# EAGLE library part BM04B-GVHS-TB_LF__SN_ (library BM04B-GVHS-TB_LF__SN_)
CONN HEADER SMD 4POS 1.25MM Source: Datasheet <http://www.jst-mfg.com/product/pdf/eng/eGVH.pdf>
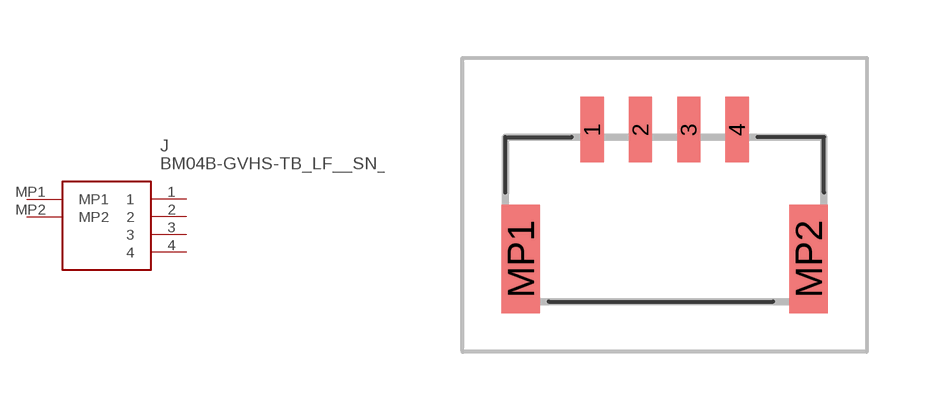
[diagram p0: symbol with the pads of BM04BGVHSTBLFSN; footprint BM04BGVHSTBLFSN]

Designator prefix J

## BM04B-GVHS-TB_LF__SN_ (Arrow_Part_Number: BM04B-GVHS-TB(LF)(SN); Arrow_Price-Stock: https://www.arrow.com/en/products/bm04b-gvhs-tb-lf-sn/jst-manufacturing?utm_currency=USD&region=europe; Description: CONN HEADER SMD 4POS 1.25MM; Height: 4.05mm; Manufacturer_Name: JST (JAPAN SOLDERLESS TERMINALS); Manufacturer_Part_Number: BM04B-GVHS-TB(LF)(SN))  [BM04BGVHSTBLFSN]
1  1
2  2
3  3
4  4
MP1  MP1
MP2  MP2

## Footprint BM04BGVHSTBLFSN (pad centres in mm)
BM04B-GVHS-TB(LF)(SN)-6
smd 0.6 x 1.7: 1 -1.875,2.225; 2 -0.625,2.225; 3 0.625,2.225; 4 1.875,2.225
smd 1 x 2.8: MP1 -3.725,-1.125; MP2 3.725,-1.125